# Altium footprint library Texas_Instruments_Footprints.PcbLib: 3 footprints
Each footprint in its own frame and in the unit in brackets; x right, y up, seen from the top. Pads: shape width x height; smd on the part's side, far side on the other; paste and mask are expansions set on the pad; w line width, h text height; cw(c..) or ccw(c..) is an arc to the next point about the centre after c.
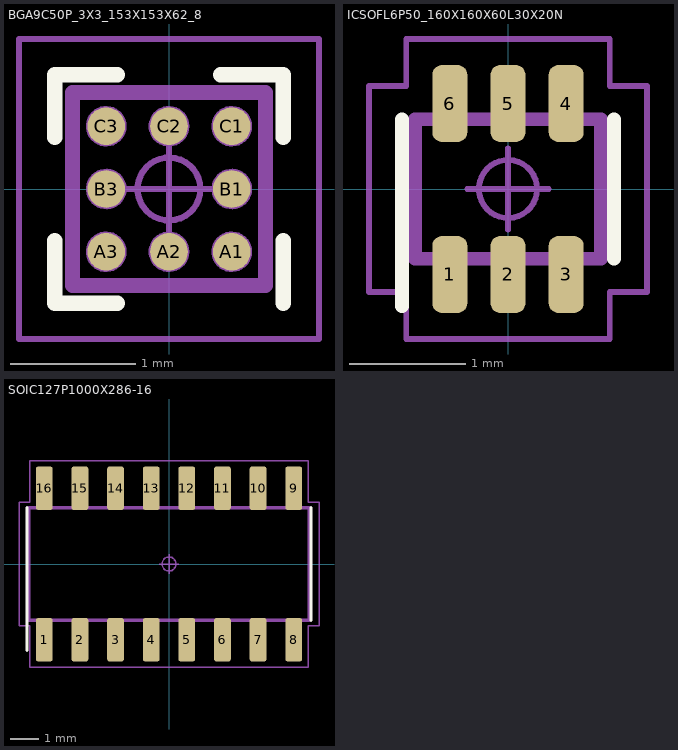
[diagram p0: the footprints below, top view; thin cyan lines are the x and y axes]

## BGA9C50P_3X3_153X153X62_8 [mm] "Ball Grid Array (BGA), 0.50 mm pitch, square; 9 pin, 1.536 mm L X 1.536 mm W X 0.625 mm H body"
height 0.625
pads (8):
  round 0.3 smd: A1(0.5,-0.5) A2(0,-0.5) A3(-0.5,-0.5) B1(0.5,0) B3(-0.5,0) C1(0.5,0.5) C2(0,0.5) C3(-0.5,0.5)
Top Overlay:
  lines w0.12: -0.91,-0.41 -0.91,-0.91 -0.41,-0.91 ; -0.91,0.41 -0.91,0.91 -0.41,0.91 ; 0.41,0.91 0.91,0.91 0.91,0.41 ; 0.91,-0.91 0.91,-0.41
Mechanical 11:
  lines w0.12: -0.768,-0.768 -0.768,0.768 0.768,0.768 0.768,-0.768 -0.768,-0.768
Mechanical 12:
  circle w0.025: c-0.5,0 r0.15
  circle w0.025: c-0.5,0.5 r0.15
  circle w0.025: c-0.5,-0.5 r0.15
  circle w0.025: c0.5,-0.5 r0.15
  circle w0.025: c0,-0.5 r0.15
  circle w0.025: c0.5,0 r0.15
  circle w0.025: c0.5,0.5 r0.15
  circle w0.025: c0,0.5 r0.15
  lines w0.025: -0.768,-0.768 -0.768,0.768 0.768,0.768 0.768,-0.768 -0.768,-0.768
Mechanical 15:
  circle w0.05: c0,0 r0.25
  lines w0.05: -0.35,0 0.35,0 ; 0,-0.35 0,0.35 ; -1.195,-1.195 1.195,-1.195 1.195,1.195 -1.195,1.195 -1.195,-1.195
Mechanical 16:
  text ".Designator" at 0,0 h1.2
3D body "TMP006 v2.step": height 0.63, standoff 0, extent -0.768,-0.775 0.768,0.761

## ICSOFL6P50_160X160X60L30X20N [mm] "Integrated Circuit (IC), Small Outline Flat Lead (SOFL), 0.50 mm pitch; 6 pin, 1.60 mm L X 1.20 mm W X 0.60 mm H body"
height 0.6
pads (6):
  rrect53% 0.3x0.66 smd: 1(-0.5,-0.735) 2(0,-0.735) 3(0.5,-0.735) 4(0.5,0.735) 5(0,0.735) 6(-0.5,0.735)
Top Overlay:
  lines w0.12: -0.91,-1.005 -0.91,0.6 ; 0.91,-0.6 0.91,0.6
Mechanical 11:
  lines w0.12: -0.8,-0.6 0.8,-0.6 0.8,0.6 -0.8,0.6 -0.8,-0.6
Mechanical 12:
  lines w0.025: -0.8,-0.6 0.8,-0.6 0.8,0.6 -0.8,0.6 -0.8,-0.6 ; -0.6,-0.8 -0.4,-0.8 -0.4,-0.5 -0.6,-0.5 -0.6,-0.8 ; -0.6,0.5 -0.4,0.5 -0.4,0.8 -0.6,0.8 -0.6,0.5 ; -0.1,-0.8 0.1,-0.8 0.1,-0.5 -0.1,-0.5 -0.1,-0.8 ; -0.1,0.5 0.1,0.5 0.1,0.8 -0.1,0.8 -0.1,0.5 ; 0.4,-0.8 0.4,-0.5 0.6,-0.5 0.6,-0.8 0.4,-0.8 ; 0.4,0.5 0.6,0.5 0.6,0.8 0.4,0.8 0.4,0.5
Mechanical 15:
  circle w0.05: c0,0 r0.25
  lines w0.05: -0.35,0 0.35,0 ; 0,-0.35 0,0.35 ; 0,0 0,0.175 ; -1.195,-0.885 -0.875,-0.885 -0.875,-1.29 0.875,-1.29 0.875,-0.885 1.195,-0.885 1.195,0.885 0.875,0.885 0.875,1.29 -0.875,1.29 -0.875,0.885 -1.195,0.885 -1.195,-0.885
Mechanical 16:
  text ".Designator" at 0,0 h1.2
3D body "ICSOFL6P50_160X160X60L30X20.STEP": height 0.6, standoff 0, extent -0.8,-0.8 0.8,0.8

## SOIC127P1000X286-16 [mm] "IPC-7351C for ADS1321"
pads (16):
  rrect30% 0.6x1.55 smd: 1(-4.445,-2.7) 2(-3.175,-2.7) 3(-1.905,-2.7) 4(-0.635,-2.7) 5(0.635,-2.7) 6(1.905,-2.7) 7(3.175,-2.7) 8(4.445,-2.7) 9(4.445,2.7) 10(3.175,2.7) 11(1.905,2.7) 12(0.635,2.7) 13(-0.635,2.7) 14(-1.905,2.7) 15(-3.175,2.7) 16(-4.445,2.7)
Top Overlay:
  lines w0.12: -5.06,-3.075 -5.06,2 ; 5.06,-2 5.06,2
Mechanical 11:
  lines w0.12: 5,-1.975 5,2 -5,2 -5,-2 5,-2 5.025,-1.975
Mechanical 12:
  lines w0.025: -4.7,-2 -4.7,-3.1 -4.19,-3.1 -4.19,-2 ; -4.7,2 -4.7,3.1 -4.19,3.1 -4.19,2 ; -3.43,-2 -3.43,-3.1 -2.92,-3.1 -2.92,-2 ; -3.43,2 -3.43,3.1 -2.92,3.1 -2.92,2 ; -2.16,-2 -2.16,-3.1 -1.65,-3.1 -1.65,-2 ; -2.16,2 -2.16,3.1 -1.65,3.1 -1.65,2 ; -0.89,-2 -0.89,-3.1 -0.38,-3.1 -0.38,-2 ; -0.89,2 -0.89,3.1 -0.38,3.1 -0.38,2 ; 0.38,-2 0.38,-3.1 0.89,-3.1 0.89,-2 ; 0.38,2 0.38,3.1 0.89,3.1 0.89,2 ; 1.65,-2 1.65,-3.1 2.16,-3.1 2.16,-2 ; 1.65,2 1.65,3.1 2.16,3.1 2.16,2 ; 2.92,-2 2.92,-3.1 3.43,-3.1 3.43,-2 ; 2.92,2 2.92,3.1 3.43,3.1 3.43,2 ; 4.19,-2 4.19,-3.1 4.7,-3.1 4.7,-2 ; 4.19,2 4.19,3.1 4.7,3.1 4.7,2 ; -5,-2 -5,2 5,2 5,-2 -5,-2
Mechanical 15:
  circle w0.05: c0,0 r0.25
  lines w0.05: -0.35,0 0.35,0 ; 0,-0.35 0,0.35 ; -5.345,-2.2 -5.345,2.2 -4.97,2.2 -4.97,3.68 4.97,3.68 4.97,2.2 5.345,2.2 5.345,-2.2 4.97,-2.2 4.97,-3.68 -4.97,-3.68 -4.97,-2.2 -5.345,-2.2
Mechanical 16:
  text "Designator" at 0,0 h1.2
3D body "SOIC16P127_990X600X175L83X41.STEP": height 1.75, standoff 0, extent -4.96,-2.985 4.94,3.015